# Altium schematic symbol library Pin Header.SchLib: 8 symbols
Pins are listed as number, name and electrical type; pins without a type are passive.

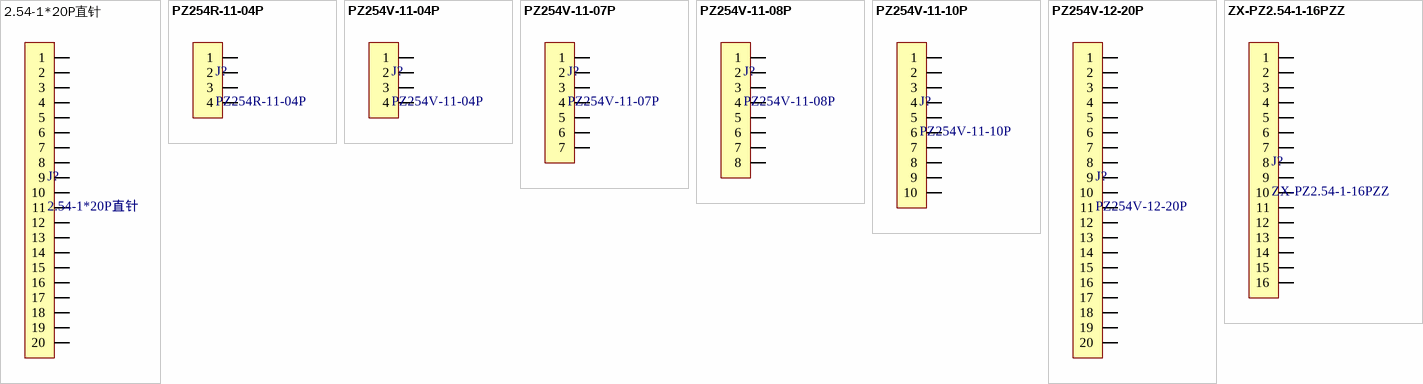
[diagram p0: symbols 2.54-1*20P直针 to ZX-PZ2.54-1-16PZZ]

## 2.54-1*20P直针
designator J?
1x20P 间距:2.54mm 方针 直插; 制造商: BOOMELE(博穆精密); 封装: P=2.54mm; 类别: 排针; 子类别: 2.54mm排针; 间距: 2.54mm; 排数: 1; 总PIN位数: 20; 插针结构: 1x20P; 安装方式: 直插
footprint Header_2.54mm_1x20_TH_1.02mm (2.54间距排针 1x20直插封装 孔径1.02)
pins: 1, 2, 3, 4, 5, 6, 7, 8, 9, 10, 11, 12, 13, 14, 15, 16, 17, 18, 19, 20

## PZ254R-11-04P
designator J?
1x4P 间距:2.54mm 方针 弯插; 制造商: XFCN(兴飞); 封装: P=2.54mm; 类别: 排针; 子类别: 2.54mm排针; 间距: 2.54mm; 排数: 1; 总PIN位数: 4; 插针结构: 1x4P; 安装方式: 弯插
footprint Header_2.54mm_1x4_TH_RA_1.02mm (2.54间距排针 1x4直插封装 孔径1.02)
pins: 1, 2, 3, 4

## PZ254V-11-04P
designator J?
1x4P 间距:2.54mm 方针 直插; 制造商: XFCN(兴飞); 封装: P=2.54mm; 类别: 排针; 子类别: 2.54mm排针; 间距: 2.54mm; 排数: 1; 总PIN位数: 4; 插针结构: 1x4P; 安装方式: 直插
footprint Header_2.54mm_1x4_TH_1.02mm (2.54间距排针 1x4直插封装 孔径1.02)
pins: 1, 2, 3, 4

## PZ254V-11-07P
designator J?
1x7P 间距:2.54mm 方针 直插; 制造商: XFCN(兴飞); 封装: P=2.54mm; 类别: 排针; 子类别: 2.54mm排针; 间距: 2.54mm; 排数: 1; 总PIN位数: 7; 插针结构: 1x7P; 安装方式: 直插
footprint Header_2.54mm_1x7_TH_1.02mm (2.54间距排针 1x7直插封装 孔径1.02)
pins: 1, 2, 3, 4, 5, 6, 7

## PZ254V-11-08P
designator J?
1x8P 间距:2.54mm 方针 直插; 制造商: XFCN(兴飞); 封装: P=2.54mm; 类别: 排针; 子类别: 2.54mm排针; 间距: 2.54mm; 排数: 1; 总PIN位数: 8; 插针结构: 1x8P; 安装方式: 直插
footprint Header_2.54mm_1x8_TH_1.02mm (2.54间距排针 1x8直插封装 孔径1.02)
pins: 1, 2, 3, 4, 5, 6, 7, 8

## PZ254V-11-10P
designator J?
1x10P 间距:2.54mm 方针 直插; 制造商: XFCN(兴飞); 封装: P=2.54mm; 类别: 排针; 子类别: 2.54mm排针; 间距: 2.54mm; 排数: 1; 总PIN位数: 8; 插针结构: 1x10P; 安装方式: 直插
footprint Header_2.54mm_1x10_TH_1.02mm (2.54间距排针 1x10直插封装 孔径1.02)
pins: 1, 2, 3, 4, 5, 6, 7, 8, 9, 10

## PZ254V-12-20P
designator J?
1x20P 间距:2.54mm 方针 直插; 制造商: XFCN(兴飞); 封装: P=2.54mm; 类别: 排针; 子类别: 2.54mm排针; 间距: 2.54mm; 排数: 1; 总PIN位数: 8; 插针结构: 1x20P; 安装方式: 直插
footprint Header_2.54mm_1x20_TH_1.02mm (2.54间距排针 1x20直插封装 孔径1.02)
pins: 1, 2, 3, 4, 5, 6, 7, 8, 9, 10, 11, 12, 13, 14, 15, 16, 17, 18, 19, 20

## ZX-PZ2.54-1-16PZZ
designator J?
1x16P 间距:2.54mm 方针 直插; 制造商: Megastar(兆星); 封装: P=2.54mm; 类别: 排针; 子类别: 2.54mm排针; 间距: 2.54mm; 排数: 1; 总PIN位数: 16; 插针结构: 1x16P; 安装方式: 直插
footprint Header_2.54mm_1x16_TH_1.02mm (2.54间距排针 1x16直插封装 孔径1.02)
pins: 1, 2, 3, 4, 5, 6, 7, 8, 9, 10, 11, 12, 13, 14, 15, 16